# Altium schematic symbol library SMPS_5V_2A.SchLib: 1 symbol
Pins are listed as number, name and electrical type; pins without a type are passive.

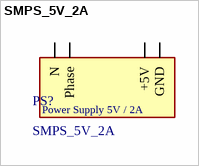
[diagram p0: symbol SMPS_5V_2A]

## SMPS_5V_2A
designator PS?
footprint SMPS_5V_2A
pins: 1 N, 2 Phase, 3 +5V, 4 GND
text: Power Supply 5V / 2A